# Altium schematic symbol library Schlib1.SchLib: 28 symbols
Pins are listed as number, name and electrical type; pins without a type are passive.

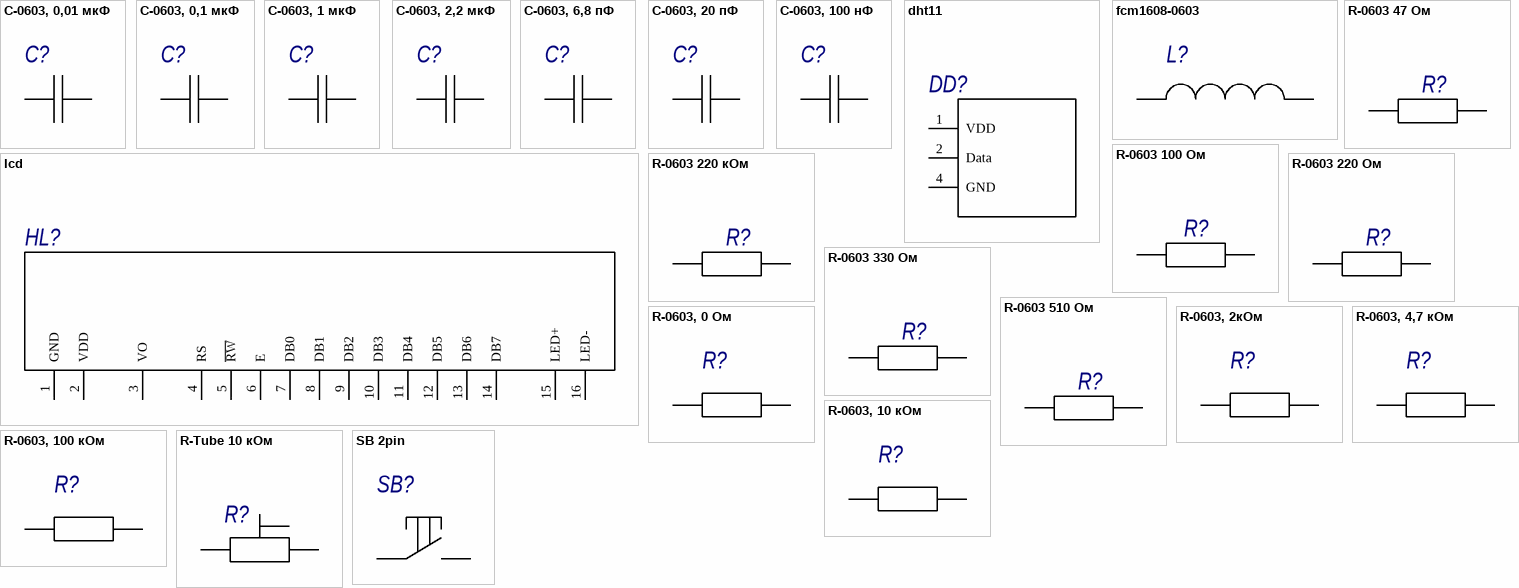
[diagram p0: symbols C-0603, 0,01 мкФ to SB 2pin]

## C-0603, 0,01 мкФ
designator C?, comment 0603 16 В 0,01 мкФ 5% X7R Kemet  (value not drawn)
Capasitor 0603; Voltage: 16 В; Manufacturer: Kemet; Value: 0,01 мкФ; Package: 0603; Tolerance: 5%; Temp_Coef: X7R
footprint C-0603, 1 мкФ
pins: 1, 2

## C-0603, 0,1 мкФ
designator C?, comment 0603 16 В 0,1 мкФ 5% X7R Kemet  (value not drawn)
Capasitor 0603; Value: 0,1 мкФ; Voltage: 16 В; Manufacturer: Kemet; Package: 0603; Tolerance: 5%; Temp_Coef: X7R
footprint C-0603, 1 мкФ
pins: 1, 2

## C-0603, 1 мкФ
designator C?, comment 0603 16 В 1 мкФ 5% X7R Kemet  (value not drawn)
Capasitor 0603; Value: 1 мкФ; Voltage: 16 В; Manufacturer: Kemet; Package: 0603; Tolerance: 5%; Temp_Coef: X7R
footprint C-0603, 1 мкФ
pins: 1, 2

## C-0603, 2,2 мкФ
designator C?, comment 0603 16 В 2,2 мкФ 5% X7R Kemet  (value not drawn)
Capasitor 0603; Value: 2,2 мкФ; Voltage: 16 В; Manufacturer: Kemet; Package: 0603; Tolerance: 5%; Temp_Coef: X7R
footprint C-0603, 1 мкФ
pins: 1, 2

## C-0603, 6,8 пФ
designator C?, comment 0603 16 В 6,8 пФ 5% C0G, NP0 Kemet  (value not drawn)
Capasitor 0603; Value: 6,8 пФ; Voltage: 16 В; Manufacturer: Kemet; Tolerance: 5%; Temp_Coef: C0G, NP0; Package: 0603
footprint C-0603, 22 пФ
pins: 1, 2

## C-0603, 20 пФ
designator C?, comment 0603 16 В 20 пФ 5% C0G, NP0 Kemet  (value not drawn)
Capasitor 0603; Value: 20 пФ; Voltage: 16 В; Manufacturer: Kemet; Tolerance: 5%; Temp_Coef: C0G, NP0; Package: 0603
footprint C-0603, 22 пФ
pins: 1, 2

## C-0603, 100 нФ
designator C?, comment 0603 16 В 100 нФ 5% X7R Samsung  (value not drawn)
Capasitor 0603; Voltage: 16 В; Value: 100 нФ; Manufacturer: Samsung; Tolerance: 5%; Package: 0603; Temp_Coef: X7R
footprint C-0603, 100 нФ
pins: 1, 2

## dht11
designator DD?, comment DHT11 Asair  (value not drawn)
Name: DHT11; Manufacturer: Asair
pins: 1 VDD, 2 Data, 4 GND

## fcm1608-0603
designator L?, comment fcm1608-0603 Bourns Electronics  (value not drawn)
fcm1608-0603; Manufacturer: Bourns Electronics; Name: fcm1608-0603
footprint IND_BOURNS_MH2029
pins: 1, 2

## lcd
designator HL?, comment WH1602B-NYG-CT WINSTAR  (value not drawn)
Name: WH1602B-NYG-CT; Manufacturer: WINSTAR
pins: 1 GND, 2 VDD, 3 VO, 4 RS, 5 ~{RW}, 6 E, 7 DB0, 8 DB1, 9 DB2, 10 DB3, 11 DB4, 12 DB5, 13 DB6, 14 DB7, 15 LED+, 16 LED-

## R-0603 47 Ом
designator R?, comment R-0603 0,1 Вт 47 Ом 5% Panasonic Electronic Components  (value not drawn)
Power: 0,1 Вт; Value: 47 Ом; Package: R-0603; Tolerance: 5%; Manufacturer: Panasonic Electronic Components
footprint 0603 47 Ом
pins: 1, 2

## R-0603 100 Ом
designator R?
Manufacturer: Panasonic Electronic Components; Pover: 0,1 Вт; Value: 100 Ом; Tolerance: 5%; Package: R-0603
footprint 0603 100 Ом
pins: 1, 2

## R-0603 220 кОм
designator R?, comment R-0603 0,1 Вт 220 кОм 5% Panasonic Electronic Components  (value not drawn)
Power: 0,1 Вт; Value: 220 кОм; Package: R-0603; Tolerance: 5%; Manufacturer: Panasonic Electronic Components
footprint 0603 330 кОм
pins: 1, 2

## R-0603 220 Ом
designator R?, comment R-0603 0,1 Вт 220 Ом 5% Panasonic Electronic Components  (value not drawn)
Power: 0,1 Вт; Value: 220 Ом; Package: R-0603; Tolerance: 5%; Manufacturer: Panasonic Electronic Components
footprint 0603 270 Ом
pins: 1, 2

## R-0603 330 Ом
designator R?, comment R-0603 0,1 Вт 330 Ом 5% Panasonic Electronic Components  (value not drawn)
Power: 0,1 Вт; Value: 330 Ом; Package: R-0603; Tolerance: 5%; Manufacturer: Panasonic Electronic Components
footprint 0603 330 Ом
pins: 1, 2

## R-0603 510 Ом
designator R?, comment R-0603 0,1 Вт 510 Ом 5% Panasonic Electronic Components  (value not drawn)
Power: 0,1 Вт; Value: 510 Ом; Package: R-0603; Tolerance: 5%; Manufacturer: Panasonic Electronic Components
footprint 0603 330 Ом
pins: 1, 2

## R-0603, 0 Ом
designator R?, comment 0603 0,1 Вт 0 Ом Jumper Panasonic  (value not drawn)
Resistor 0603; Value: 0 Ом; Power: 0,1 Вт; Manufacturer: Panasonic; Tolerance: Jumper; Package: 0603
footprint R-0603, 0 Ом
pins: 1, 2

## R-0603, 2кОм
designator R?, comment 0603 0,25 Вт 2 кОм 5% Panasonic  (value not drawn)
Resistor 0603; Value: 2 кОм; Power: 0,25 Вт; Manufacturer: Panasonic; Tolerance: 5%; Package: 0603
footprint R-0603, 1кОм
pins: 1, 2

## R-0603, 4,7 кОм
designator R?, comment 0603 0,25 Вт 4,7 кОм 5% Panasonic  (value not drawn)
Resistor 0603; Value: 4,7 кОм; Power: 0,25 Вт; Manufacturer: Panasonic; Tolerance: 5%; Package: 0603
footprint R-0603, 6,8 кОм
pins: 1, 2

## R-0603, 10 кОм
designator R?, comment 0603 0,25 Вт 10 кОм 5% Panasonic  (value not drawn)
Resistor 0603; Value: 10 кОм; Power: 0,25 Вт; Manufacturer: Panasonic; Tolerance: 5%; Package: 0603
footprint R-0603, 10 кОм
pins: 1, 2

## R-0603, 100 кОм
designator R?, comment 0603 0,25 Вт 100 кОм 5% Panasonic  (value not drawn)
Resistor 0603; Power: 0,25 Вт; Value: 100 кОм; Manufacturer: Panasonic; Tolerance: 5%; Package: 0603
footprint R-0603, 100 кОм
pins: 1, 2

## R-Tube 10 кОм
designator R?, comment Tube 0,5 Вт 10 кОм 10% Bourns Inc.  (value not drawn)
Power: 0,5 Вт; Value: 10 кОм; Package: Tube; Tolerance: 10%; Manufacturer: Bourns Inc.
footprint R-Tube
pins: 1, 2, 3

## SB 2pin
designator SB?, comment RS032G05A3SMRT C&K  (value not drawn)
Tactile Switch SPST-NO Top Actuated Surface Mount; Manufacturer: C&K; Name: RS032G05A3SMRT
footprint SB 2 pin
pins: 1, 2

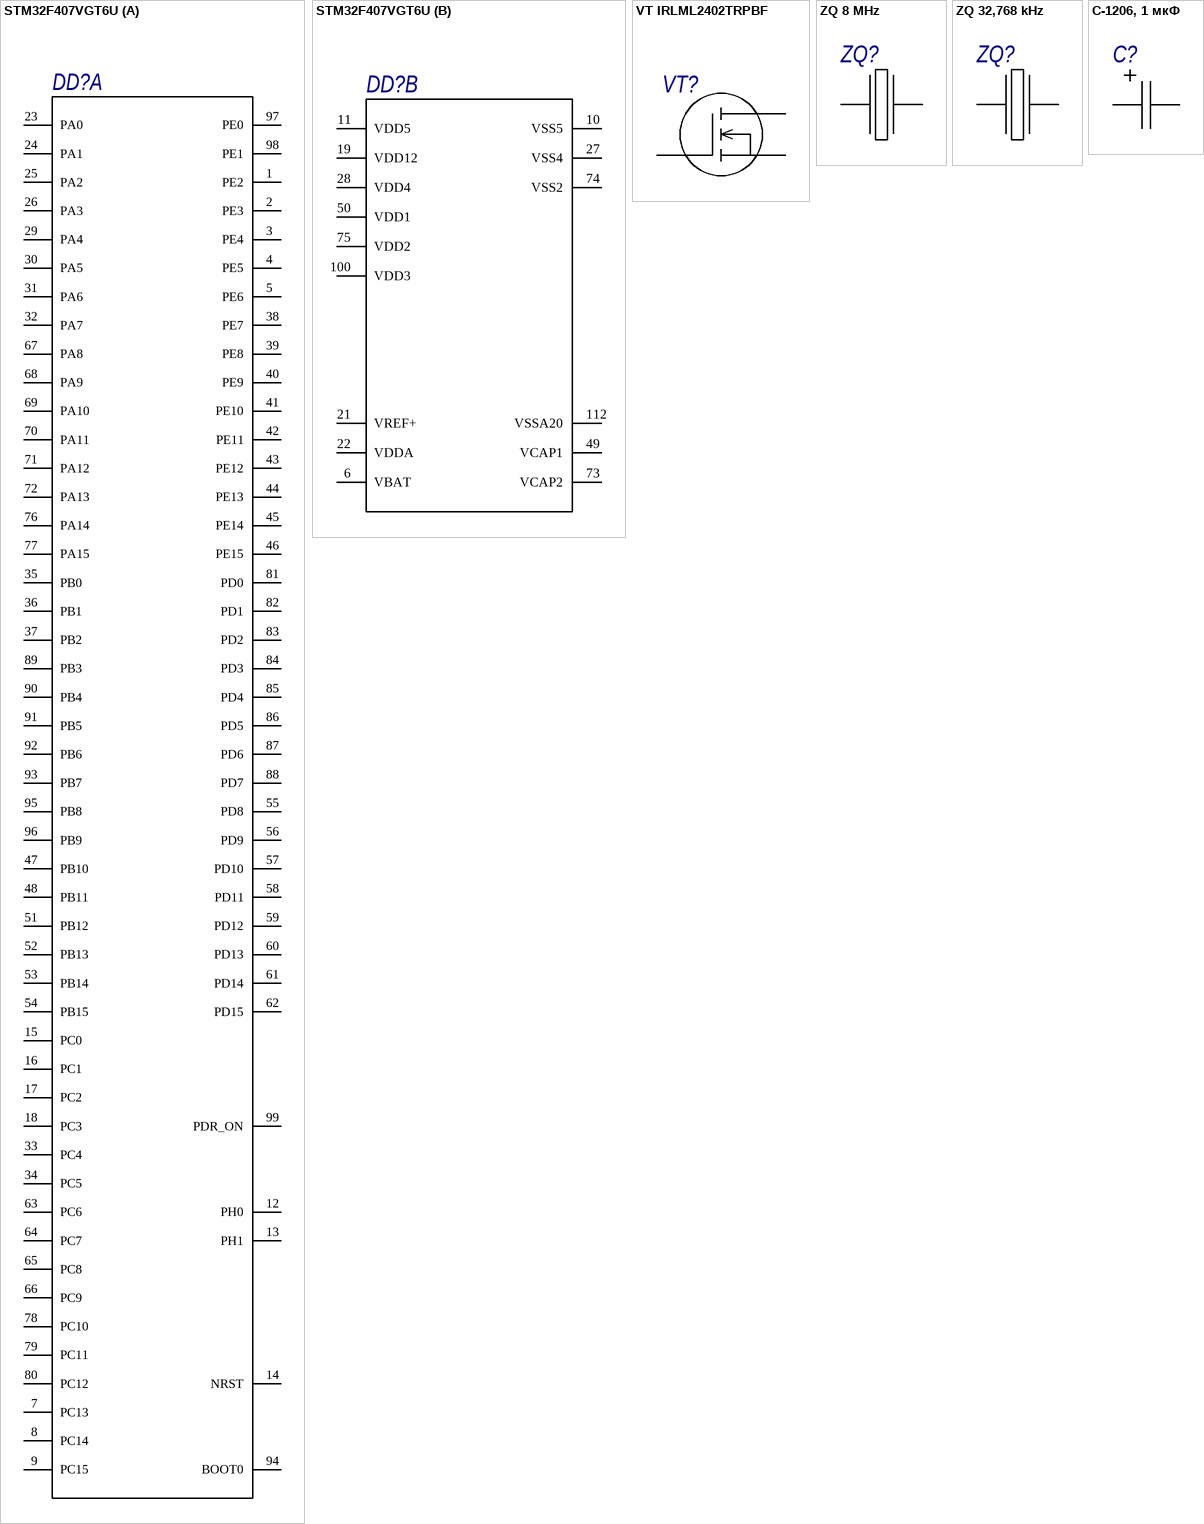
[diagram p1: symbols STM32F407VGT6U to С-1206, 1 мкФ]

## STM32F407VGT6U
designator DD?, comment STM32F407VGT6U STMicroelectronics  (value not drawn)
Name: STM32F407VGT6U; Manufacturer: STMicroelectronics
part A pins: 1 PE2, 2 PE3, 3 PE4, 4 PE5, 5 PE6, 7 PC13, 8 PC14, 9 PC15, 12 PH0, 13 PH1, 14 NRST, 15 PC0, 16 PC1, 17 PC2, 18 PC3, 23 PA0, 24 PA1, 25 PA2, 26 PA3, 29 PA4, 30 PA5, 31 PA6, 32 PA7, 33 PC4, 34 PC5, 35 PB0, 36 PB1, 37 PB2, 38 PE7, 39 PE8, 40 PE9, 41 PE10, 42 PE11, 43 PE12, 44 PE13, 45 PE14, 46 PE15, 47 PB10, 48 PB11, 51 PB12, 52 PB13, 53 PB14, 54 PB15, 55 PD8, 56 PD9, 57 PD10, 58 PD11, 59 PD12, 60 PD13, 61 PD14, 62 PD15, 63 PC6, 64 PC7, 65 PC8, 66 PC9, 67 PA8, 68 PA9, 69 PA10, 70 PA11, 71 PA12, 72 PA13, 76 PA14, 77 PA15, 78 PC10, 79 PC11, 80 PC12, 81 PD0, 82 PD1, 83 PD2, 84 PD3, 85 PD4, 86 PD5, 87 PD6, 88 PD7, 89 PB3, 90 PB4, 91 PB5, 92 PB6, 93 PB7, 94 BOOT0, 95 PB8, 96 PB9, 97 PE0, 98 PE1, 99 PDR_ON
part B pins: 6 VBAT, 10 VSS5, 11 VDD5, 19 VDD12, 21 VREF+, 22 VDDA, 27 VSS4, 28 VDD4, 49 VCAP1, 50 VDD1, 73 VCAP2, 74 VSS2, 75 VDD2, 100 VDD3, 112 VSSA20

## VT IRLML2402TRPBF
designator VT?, comment IRLML2402TRPBF Infineon Technologies  (value not drawn)
Name: IRLML2402TRPBF; Manufacturer: Infineon Technologies
footprint VT IRFZ44NLPBF
pins: 1, 2, 3

## ZQ 8 MHz
designator ZQ?, comment J49SMH-P-G-G-K-8M0 Jauch Quartz  (value not drawn)
Name: J49SMH-P-G-G-K-8M0; Manufacturer: Jauch Quartz
footprint ZQ 32,768 kHz
pins: 1 In/Out, 2 Out/In

## ZQ 32,768 kHz
designator ZQ?, comment MC306-G-06Q-32.768  JFVNY  (value not drawn)
Name: MC306-G-06Q-32.768; Manufacturer: JFVNY
footprint ZQ 32,768 kHz
pins: 1 In/Out, 2 Out/In

## С-1206, 1 мкФ
designator C?, comment 1206 16 В 1 мкФ 10% KYOCERA AVX  (value not drawn)
Capasitor; Voltage: 16 В; Value: 1 мкФ; Manufacturer: KYOCERA AVX; Tolerance: 10%; Package: 1206
footprint C-1206, 10 мкФ
pins: 1, 2